# Altium integrated library AP2138N-3.3TRG1.IntLib: 1 symbol
Pins are listed as number, name and electrical type; pins without a type are passive.

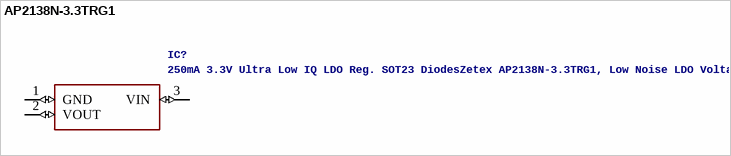
[diagram p0: symbol AP2138N-3.3TRG1]

## AP2138N-3.3TRG1
designator IC?, comment 250mA 3.3V Ultra Low IQ LDO Reg. SOT23 DiodesZetex AP2138N-3.3TRG1, Low Noise LDO Voltage Regulator, 250 (Min)mA, 3.3 V +/-2%, 2.5 to 6.6 Vin, 3-Pin SOT-23Source:  Datasheet
Manufacturer_Name: Diodes Inc.; GateName_1: G$1; Allied_Number: 70551004; SymbolName_1: AP2138N-3.3TRG1; LibraryName: AP2138N-3.3TRG1; DeviceSetName: AP2138N-3.3TRG1; Package: SOT95P282X145-3N; Manufacturer_Part_Number: AP2138N-3.3TRG1; Mouser_Part_Number: 621-AP2138N-3.3TRG1; Mouser_Price-Stock: https://www.mouser.com/Search/Refine.aspx?Keyword=621-AP2138N-3.3TRG1; RS_Part_Number: 9210398P; RS_Price-Stock: http://uk.rs-online.com/web/p/products/9210398P; Allied_Price-Stock: https://www.alliedelec.com/diodesinc-ap2138n-3-3trg1/70551004/; Description: 250mA 3.3V Ultra Low IQ LDO Reg. SOT23 DiodesZetex AP2138N-3.3TRG1, Low Noise LDO Voltage Regulator, 250 (Min)mA, 3.3 V +/-2%, 2.5 to 6.6 Vin, 3-Pin SOT-23; Height: 1.45mm
footprint SOT95P282X145-3N
pins: 1 GND (io), 2 VOUT (io), 3 VIN (io)